# EAGLE library part MTA07-100 (library AMP_MTA)
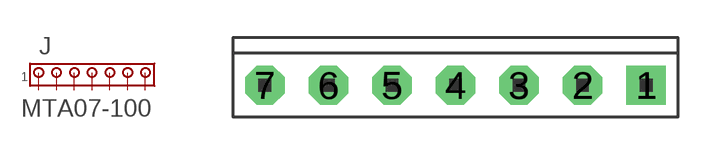
[diagram p1: symbol with the pads of 1X07MTA; footprint 1X07MTA]

Designator prefix J

## MTA07-100  [1X07MTA]
1  1
2  2
3  3
4  4
5  5
6  6
7  7

## Footprint 1X07MTA (pad centres in mm)
drill 1.016 pad 1.575 square: 1 10.16,0
drill 1.016 pad 1.575 octagon: 2 7.62,0; 3 5.08,0; 4 2.54,0; 5 0,0; 6 -2.54,0; 7 -5.08,0